# Altium footprint library phoenix-combicon.PcbLib: 2 footprints
Each footprint in its own frame and in the unit in brackets; x right, y up, seen from the top. Pads: shape width x height; smd on the part's side, far side on the other; paste and mask are expansions set on the pad; w line width, h text height; cw(c..) or ccw(c..) is an arc to the next point about the centre after c.
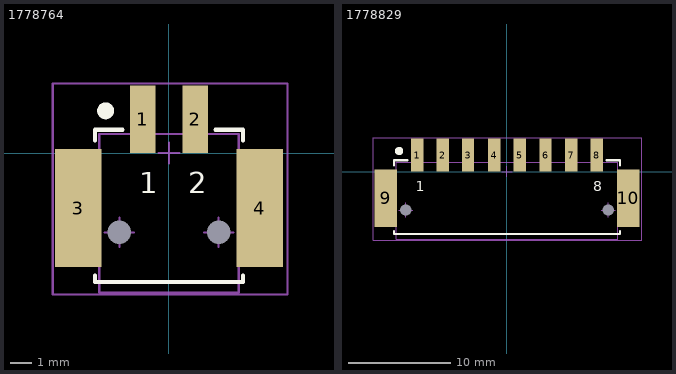
[diagram p0: the footprints below, top view; thin cyan lines are the x and y axes]

## 1778764 [mm] "2pos, 2.5mm Wire to Board Connector, Header, SMT, Right Angle"
height 4
pads (6):
  round 0 hole 1.1 unplated paste+0: 0(-2.35,-3.75) 0(2.35,-3.75)
  rect 1.2x3.2 smd: 1(-1.25,1.6) 2(1.25,1.6)
  rect 2.2x5.6 smd: 3(-4.3,-2.6) 4(4.3,-2.6)
Top Overlay:
  circle w0.4: c-3,2 r0.2
  lines w0.2: -3.5,-5.8 -3.5,-6.1 3.5,-6.1 3.5,-5.8 ; -3.5,0.6 -3.5,1.1 -2.2,1.1 ; 2.2,1.1 3.5,1.1 3.5,0.6
  text "1" at -1.4,-1.9 h1
  text "2" at 0.9,-1.9 h1
Mechanical 13:
  lines w0.1: -3.05,-3.75 -1.65,-3.75 ; -2.35,-4.45 -2.35,-3.05 ; -0.5,0 0.5,0 ; 0,-0.5 0,0.5 ; 1.65,-3.75 3.05,-3.75 ; 2.35,-4.45 2.35,-3.05 ; -3.3,-6.6 3.3,-6.6 3.3,0.9 -3.3,0.9 -3.3,-6.6
Mechanical 15:
  lines w0.1: -5.5,-6.7 5.6,-6.7 5.6,3.3 -5.5,3.3 -5.5,-6.7
  text ".Designator" at -2.4,-2.6 h0.5
3D body: height 5, standoff -0.7, extent -5.3,-6.6 5.3,2.9

## 1778829 [mm] "8pos, 2.5mm Wire to Board Connector, Header, SMT, Right Angle"
height 4
pads (12):
  round 0 hole 1.1 unplated paste+0: 0(-9.85,-3.75) 0(9.85,-3.75)
  rect 1.2x3.2 smd: 1(-8.75,1.6) 2(-6.25,1.6) 3(-3.79,1.6) 4(-1.25,1.6) 5(1.25,1.6) 6(3.75,1.6) 7(6.25,1.6) 8(8.75,1.6)
  rect 2.2x5.6 smd: 9(-11.8,-2.6) 10(11.8,-2.6)
Top Overlay:
  circle w0.4: c-10.5,2 r0.2
  lines w0.2: -11,-5.8 -11,-6.1 11,-6.1 11,-5.8 ; -11,0.6 -11,1.1 -9.7,1.1 ; 9.7,1.1 11,1.1 11,0.6
  text "1" at -8.9,-1.9 h1
  text "8" at 8.4,-1.9 h1
Mechanical 13:
  lines w0.1: -10.55,-3.75 -9.15,-3.75 ; -9.85,-4.45 -9.85,-3.05 ; -0.5,0 0.5,0 ; 0,-0.5 0,0.5 ; 9.15,-3.75 10.55,-3.75 ; 9.85,-4.45 9.85,-3.05 ; -10.8,-6.6 10.8,-6.6 10.8,0.9 -10.8,0.9 -10.8,-6.6
Mechanical 15:
  lines w0.1: -13,-6.7 13.1,-6.7 13.1,3.3 -13,3.3 -13,-6.7
  text ".Designator" at -3.2,-2.8 h0.5
3D body: height 5, standoff -0.7, extent -12.8,-6.6 12.8,2.9